# EAGLE library part CP2102 (library Kunosheru)
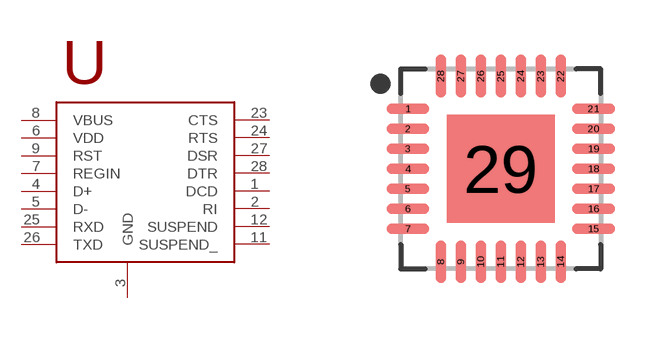
[diagram p0: symbol with the pads of QFN50P500X500X100-29T270; footprint QFN50P500X500X100-29T270]

Designator prefix -

## CP2102  [QFN50P500X500X100-29T270]
1  DCD
2  RI
3  GND
4  D+
5  D-
6  VDD
7  REGIN
8  VBUS
9  RST
11  SUSPEND_
12  SUSPEND
23  CTS
24  RTS
25  RXD
26  TXD
27  DSR
28  DTR

## Footprint QFN50P500X500X100-29T270 (pad centres in mm)
28-QFN, 0.50 mm pitch, 5.00 X 5.00 X 1.00 mm body, 2.70 X 2.70 mm thermal pad 28-pin QFN package with 0.50 mm pitch with body size 5.00 X 5.00 X 1.00 mm and thermal pad size 2.70 X 2.70 mm
smd 1.069 x 0.264: 1 -2.321,1.5; 2 -2.321,1; 3 -2.321,0.5; 4 -2.321,0; 5 -2.321,-0.5; 6 -2.321,-1; 7 -2.321,-1.5; 15 2.321,-1.5; 16 2.321,-1; 17 2.321,-0.5; 18 2.321,0; 19 2.321,0.5; 20 2.321,1; 21 2.321,1.5
smd 0.264 x 1.069: 8 -1.5,-2.321; 9 -1,-2.321; 10 -0.5,-2.321; 11 0,-2.321; 12 0.5,-2.321; 13 1,-2.321; 14 1.5,-2.321; 22 1.5,2.321; 23 1,2.321; 24 0.5,2.321; 25 0,2.321; 26 -0.5,2.321; 27 -1,2.321; 28 -1.5,2.321
smd 2.7 x 2.7: 29 0,0